# Altium schematic symbol library Schlib1..SchLib: 7 symbols
Pins are listed as number, name and electrical type; pins without a type are passive.

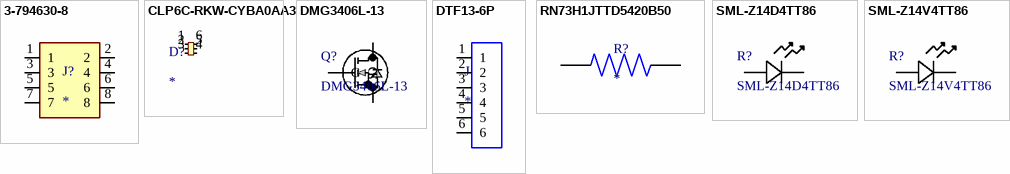
[diagram p0: symbols 3-794630-8 to SML-Z14V4TT86]

## 3-794630-8
designator J?
Wire-To-Board Connector, Vertical, Micro MATE-N-LOK Series, Through Hole, Header, 8, 3 mm; MF: {'manufacturer': 'TE Connectivity'}; MP: 3-794630-8; Package: None; Value: *; Price: None; Availability: Unavailable
footprint CONN_3-794630-8
pins: 1, 2, 3, 4, 5, 6, 7, 8

## CLP6C-RKW-CYBA0AA3
designator D?
LED RED CLEAR 6PLCC SMD; ComponentLink1Description: Datasheet; ComponentLink1URL: https://datasheet.ciiva.com/2118/clp6crkwakw-2118502.pdf?src-supplier=Digi-Key
footprint CLP6C-RKW-CYBA0AA3 (LED RED CLEAR 6PLCC SMD)
pins: 1, 2, 3, 4, 5, 6

## DMG3406L-13
designator Q?
No Description Available; Mfr_Name: Diodes Inc; Type: DEV; Copyright: Copyright (C) 2022 Ultra Librarian. All rights reserved.; Manufacturer_Part_Number: DMG3406L-13; Digi-Key_Part_Number_1: DMG3406L-13DITR-ND; Digi-Key_Part_Number_2: DMG3406L-13DICT-ND; Digi-Key_Part_Number_3: DMG3406L-13DIDKR-ND; RefDes: RefDes
footprint SOT23_DMG3406_DIO
pins: 1 G, 2 S, 3 D

## DTF13-6P
designator J
Conn Wire to Board RCP 6 POS 4.45mm Solder RA Thru-Hole Automotive Package; MP: DTF13-6P; MF: TE Connectivity; Price: None; Value: *; Package: None; Availability: Unavailable; SnapEDA_Link: https://www.snapeda.com/parts/DTF13-6P/TE%20Connectivity%20Deutsch%20Connectors/view-part/2549571/?ref=snap
footprint TE_DTF13-6P
pins: 1, 2, 3, 4, 5, 6

## RN73H1JTTD5420B50
designator R?
542 Ohms Â±0.1% 0.1W, 1/10W Chip Resistor 0603 (1608 Metric) Automotive AEC-Q200, Moisture Resistant Metal Film; MP: RN73H1JTTD5420B50; MF: KOA Speer; Value: *; SnapEDA_Link: https://www.snapeda.com/parts/RN73H1JTTD5420B50/KOA+Speer/view-part/?ref=snap; Package: 1608 KOA; Check_prices: https://www.snapeda.com/parts/RN73H1JTTD5420B50/KOA+Speer/view-part/?ref=eda; Digi-Key_Part_Number: 2019-RN73H1JTTD5420B50TR-ND; Purchase-URL: https://pricing.snapeda.com/search/part/RN73H1JTTD5420B50/?ref=eda
footprint RESC1608X55N
pins: 1, 2

## SML-Z14D4TT86
designator R?
LED ORANGE CLEAR 2PLCC SMD; Mfr_Name: ROHM Semiconductor; Copyright: Copyright (C) 2022 Ultra Librarian. All rights reserved.; Manufacturer_Part_Number: SML-Z14D4TT86; Digi-Key_Part_Number_1: 846-1041-1-ND; Digi-Key_Part_Number_2: 846-1041-2-ND; Digi-Key_Part_Number_3: 846-1041-6-ND; RefDes: RefDes; Type: DEV
footprint LED_SMLZ14_ROM
footprint LED_SMLZ14_ROM
pins: 1, 2

## SML-Z14V4TT86
designator R?
Red 630nm LED Indication - Discrete 2V 2-PLCC; Mfr_Name: ROHM Semiconductor; Copyright: Copyright (C) 2022 Ultra Librarian. All rights reserved.; Manufacturer_Part_Number: SML-Z14V4TT86; Digi-Key_Part_Number_1: 846-1046-1-ND; Digi-Key_Part_Number_2: 846-1046-2-ND; Digi-Key_Part_Number_3: 846-1046-6-ND; RefDes: RefDes; Type: DEV
footprint LED_SMLZ14_ROM
footprint LED_SMLZ14_ROM
pins: 1, 2